# Altium schematic symbol library ON Semi Logic Multiplexer.SchLib: 195 symbols (part 1 of 4)
Pins are listed as number, name and electrical type; pins without a type are passive.

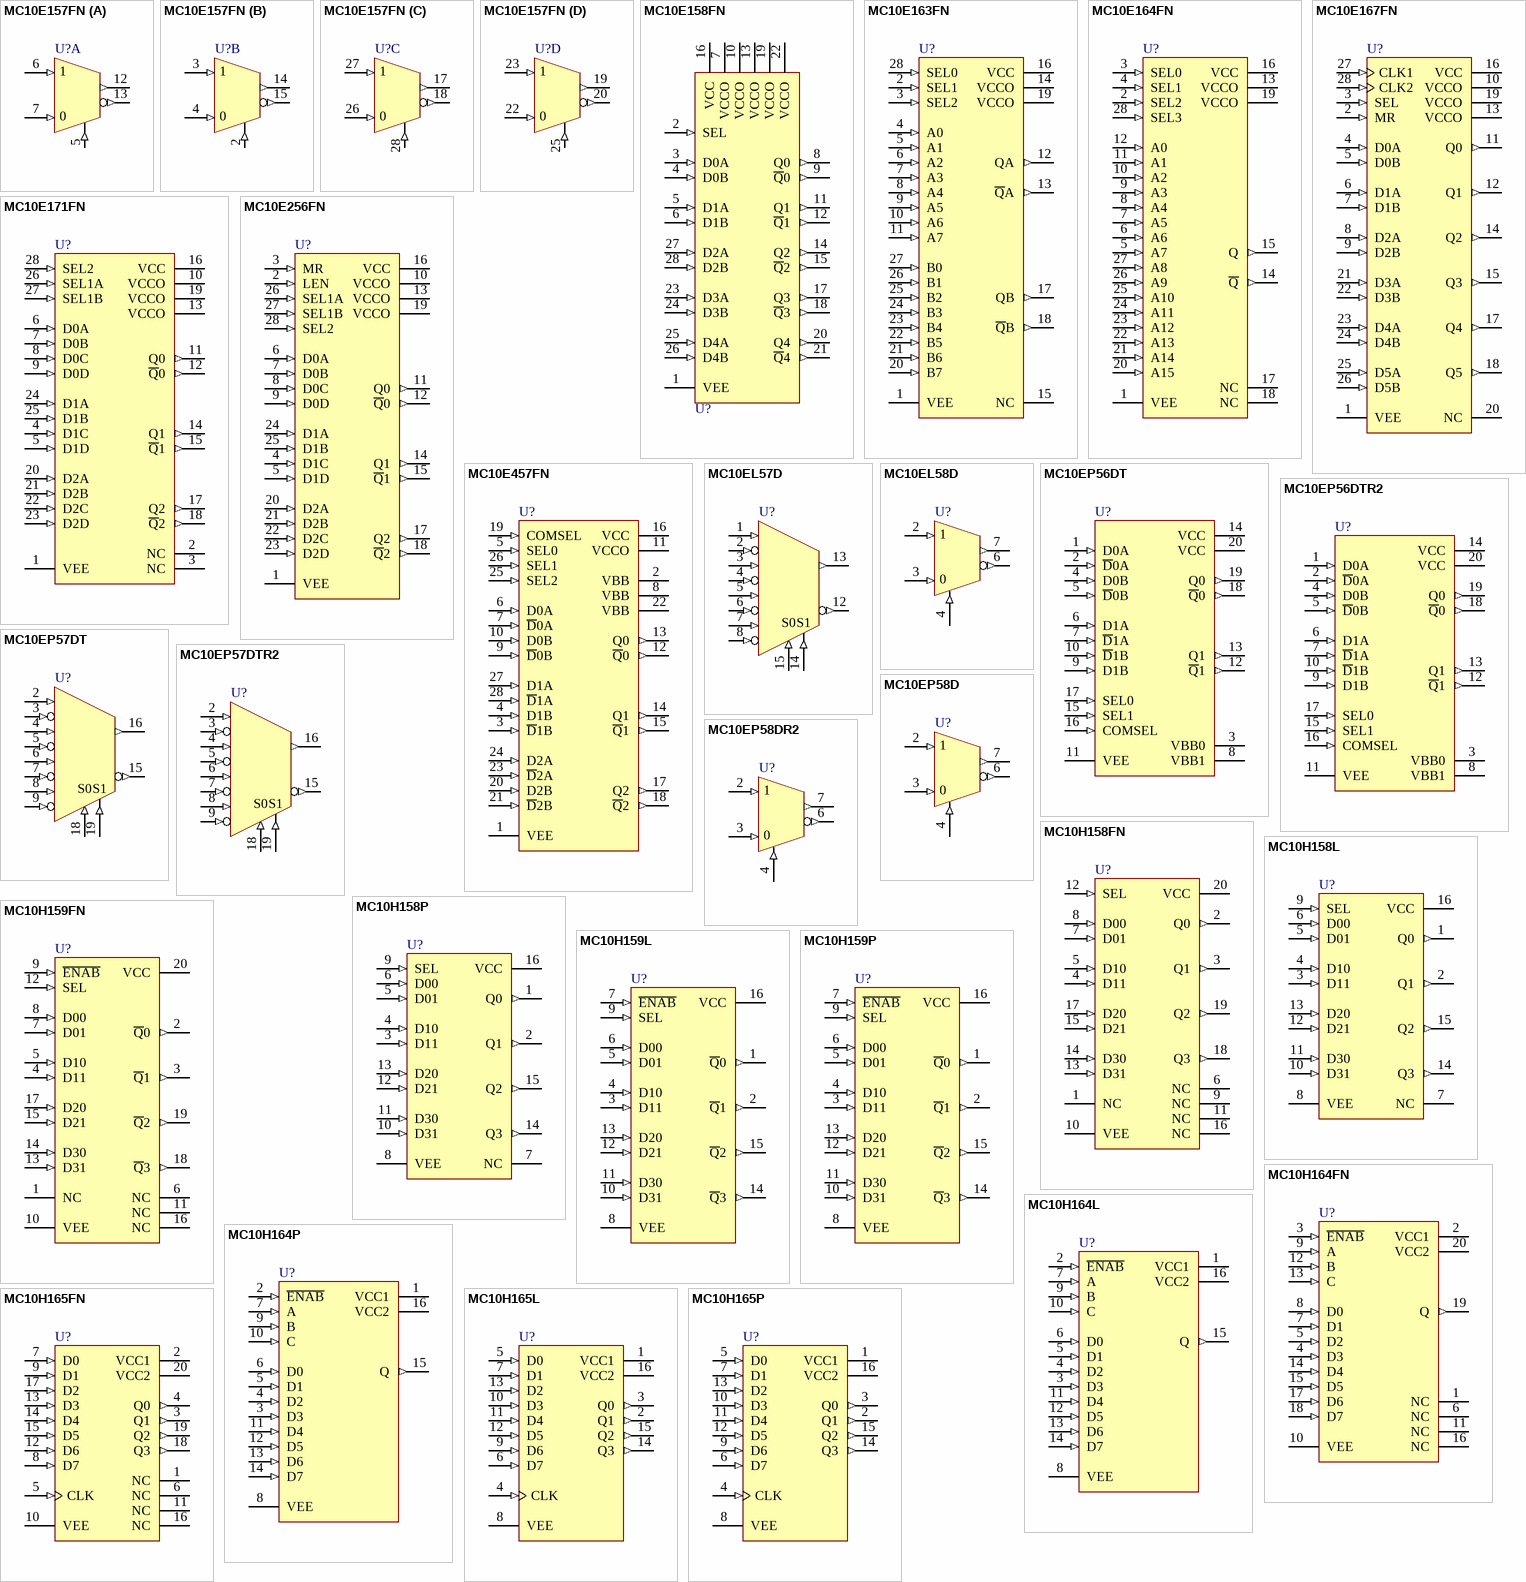
[diagram p0: symbols MC10E157FN to MC10H165P]

## MC10E157FN
designator U?
Quad 2:1 Multiplexer; Note: NC pins are 8,9,10, 24 and are not drawn.; Published: 15-Apr-2002; LatestRevisionDate: 13-Apr-2006; LatestRevisionNote: IPC-7351 Footprint Added.; DatasheetVersion: 1996; PackageVersion: Feb-2000; PackageReference: 776-02; Publisher: Altium Limited; PackageDescription: 28-Pin Leaded Chip Carrier 1.27 mm Pitch; ComponentLink1Description: Manufacturer Link; ComponentLink1URL: http://www.onsemi.com/; ComponentLink2Description: Datasheet; ComponentLink2URL: http://www.onsemi.com/pub/Collateral/MC10E157-D.PDF
footprint 776-02_N (Leaded Chip Carrier, 28-Leads, Body 11.5x11.5mm, Pitch 1.27mm, IPC Medium Density)
footprint 776-02_L (Leaded Chip Carrier, 28-Leads, Body 11.5x11.5mm, Pitch 1.27mm, IPC High Density)
footprint 776-02_M (Leaded Chip Carrier, 28-Leads, Body 11.5x11.5mm, Pitch 1.27mm, IPC Low Density)
pins on every part: 1 VEE (power) hidden to VEE, 11 VCCO (power) hidden to VCCO, 16 VCC (power) hidden to VCC, 21 VCCO (power) hidden to VCCO
part A pins: 5 SEL0 (in), 6 D0A (in), 7 D0B (in), 12 Q0 (out), 13 ~{Q}0 (out)
part B pins: 2 SEL1 (in), 3 D1A (in), 4 D1B (in), 14 Q1 (out), 15 ~{Q}1 (out)
part C pins: 17 Q2 (out), 18 ~{Q}2 (out), 26 D2B (in), 27 D2A (in), 28 SEL2 (in)
part D pins: 19 Q3 (out), 20 ~{Q}3 (out), 22 D3B (in), 23 D3A (in), 25 SEL3 (in)
part A text: 0
part B text: 0
part C text: 0
part D text: 0

## MC10E158FN
designator U?
5-Bit 2:1 Multiplexer; Published: 15-Apr-2002; LatestRevisionDate: 13-Apr-2006; LatestRevisionNote: IPC-7351 Footprint Added.; DatasheetVersion: 1996; PackageVersion: Feb-2000; PackageReference: 776-02; Publisher: Altium Limited; PackageDescription: 28-Pin Leaded Chip Carrier 1.27 mm Pitch; ComponentLink1Description: Manufacturer Link; ComponentLink1URL: http://www.onsemi.com/; ComponentLink2Description: Datasheet; ComponentLink2URL: http://www.onsemi.com/pub/Collateral/MC10E158-D.PDF
footprint 776-02_N (Leaded Chip Carrier, 28-Leads, Body 11.5x11.5mm, Pitch 1.27mm, IPC Medium Density)
footprint 776-02_L (Leaded Chip Carrier, 28-Leads, Body 11.5x11.5mm, Pitch 1.27mm, IPC High Density)
footprint 776-02_M (Leaded Chip Carrier, 28-Leads, Body 11.5x11.5mm, Pitch 1.27mm, IPC Low Density)
pins: 1 VEE (power), 2 SEL (in), 3 D0A (in), 4 D0B (in), 5 D1A (in), 6 D1B (in), 7 VCCO (power), 8 Q0 (out), 9 ~{Q}0 (out), 10 VCCO (power), 11 Q1 (out), 12 ~{Q}1 (out), 13 VCCO (power), 14 Q2 (out), 15 ~{Q}2 (out), 16 VCC (power), 17 Q3 (out), 18 ~{Q}3 (out), 19 VCCO (power), 20 Q4 (out), 21 ~{Q}4 (out), 22 VCCO (power), 23 D3A (in), 24 D3B (in), 25 D4A (in), 26 D4B (in), 27 D2A (in), 28 D2B (in)

## MC10E163FN
designator U?
2-Bit 8:1 Multiplexer; Published: 15-Apr-2002; LatestRevisionDate: 13-Apr-2006; LatestRevisionNote: IPC-7351 Footprint Added.; DatasheetVersion: 1996; PackageVersion: Feb-2000; PackageReference: 776-02; Publisher: Altium Limited; PackageDescription: 28-Pin Leaded Chip Carrier 1.27 mm Pitch; ComponentLink1Description: Manufacturer Link; ComponentLink1URL: http://www.onsemi.com/; ComponentLink2Description: Datasheet; ComponentLink2URL: http://www.onsemi.com/pub/Collateral/MC10E163-D.PDF
footprint 776-02_N (Leaded Chip Carrier, 28-Leads, Body 11.5x11.5mm, Pitch 1.27mm, IPC Medium Density)
footprint 776-02_L (Leaded Chip Carrier, 28-Leads, Body 11.5x11.5mm, Pitch 1.27mm, IPC High Density)
footprint 776-02_M (Leaded Chip Carrier, 28-Leads, Body 11.5x11.5mm, Pitch 1.27mm, IPC Low Density)
pins: 1 VEE (power), 2 SEL1 (in), 3 SEL2 (in), 4 A0 (in), 5 A1 (in), 6 A2 (in), 7 A3 (in), 8 A4 (in), 9 A5 (in), 10 A6 (in), 11 A7 (in), 12 QA (out), 13 ~{Q}A (out), 14 VCCO (power), 15 NC, 16 VCC (power), 17 QB (out), 18 ~{Q}B (out), 19 VCCO (power), 20 B7 (in), 21 B6 (in), 22 B5 (in), 23 B4 (in), 24 B3 (in), 25 B2 (in), 26 B1 (in), 27 B0 (in), 28 SEL0 (in)

## MC10E164FN
designator U?
16:1 Multiplexer; Published: 15-Apr-2002; LatestRevisionDate: 13-Apr-2006; LatestRevisionNote: IPC-7351 Footprint Added.; DatasheetVersion: 1996; PackageVersion: Feb-2000; PackageReference: 776-02; Publisher: Altium Limited; PackageDescription: 28-Pin Leaded Chip Carrier 1.27 mm Pitch; ComponentLink1Description: Manufacturer Link; ComponentLink1URL: http://www.onsemi.com/; ComponentLink2Description: Datasheet; ComponentLink2URL: http://www.onsemi.com/pub/Collateral/MC10E164-D.PDF
footprint 776-02_N (Leaded Chip Carrier, 28-Leads, Body 11.5x11.5mm, Pitch 1.27mm, IPC Medium Density)
footprint 776-02_L (Leaded Chip Carrier, 28-Leads, Body 11.5x11.5mm, Pitch 1.27mm, IPC High Density)
footprint 776-02_M (Leaded Chip Carrier, 28-Leads, Body 11.5x11.5mm, Pitch 1.27mm, IPC Low Density)
pins: 1 VEE (power), 2 SEL2 (in), 3 SEL0 (in), 4 SEL1 (in), 5 A7 (in), 6 A6 (in), 7 A5 (in), 8 A4 (in), 9 A3 (in), 10 A2 (in), 11 A1 (in), 12 A0 (in), 13 VCCO (power), 14 ~{Q} (out), 15 Q (out), 16 VCC (power), 17 NC, 18 NC, 19 VCCO (power), 20 A15 (in), 21 A14 (in), 22 A13 (in), 23 A12 (in), 24 A11 (in), 25 A10 (in), 26 A9 (in), 27 A8 (in), 28 SEL3 (in)

## MC10E167FN
designator U?
6-Bit 2:1 Multiplexer-Register; Published: 15-Apr-2002; LatestRevisionDate: 13-Apr-2006; LatestRevisionNote: IPC-7351 Footprint Added.; DatasheetVersion: 1996; PackageVersion: Feb-2000; PackageReference: 776-02; Publisher: Altium Limited; PackageDescription: 28-Pin Leaded Chip Carrier 1.27 mm Pitch; ComponentLink1Description: Manufacturer Link; ComponentLink1URL: http://www.onsemi.com/; ComponentLink2Description: Datasheet; ComponentLink2URL: http://www.onsemi.com/pub/Collateral/MC10E167-D.PDF
footprint 776-02_N (Leaded Chip Carrier, 28-Leads, Body 11.5x11.5mm, Pitch 1.27mm, IPC Medium Density)
footprint 776-02_L (Leaded Chip Carrier, 28-Leads, Body 11.5x11.5mm, Pitch 1.27mm, IPC High Density)
footprint 776-02_M (Leaded Chip Carrier, 28-Leads, Body 11.5x11.5mm, Pitch 1.27mm, IPC Low Density)
pins: 1 VEE (power), 2 MR (in), 3 SEL (in), 4 D0A (in), 5 D0B (in), 6 D1A (in), 7 D1B (in), 8 D2A (in), 9 D2B (in), 10 VCCO (power), 11 Q0 (out), 12 Q1 (out), 13 VCCO (power), 14 Q2 (out), 15 Q3 (out), 16 VCC (power), 17 Q4 (out), 18 Q5 (out), 19 VCCO (power), 20 NC, 21 D3A (in), 22 D3B (in), 23 D4A (in), 24 D4B (in), 25 D5A (in), 26 D5B (in), 27 CLK1 (in), 28 CLK2 (in)

## MC10E171FN
designator U?
3-Bit 4:1 Multiplexer; Published: 15-Apr-2002; LatestRevisionDate: 13-Apr-2006; LatestRevisionNote: IPC-7351 Footprint Added.; DatasheetVersion: 1996; PackageVersion: Feb-2000; PackageReference: 776-02; Publisher: Altium Limited; PackageDescription: 28-Pin Leaded Chip Carrier 1.27 mm Pitch; ComponentLink1Description: Manufacturer Link; ComponentLink1URL: http://www.onsemi.com/; ComponentLink2Description: Datasheet; ComponentLink2URL: http://www.onsemi.com/pub/Collateral/MC10E171-D.PDF
footprint 776-02_N (Leaded Chip Carrier, 28-Leads, Body 11.5x11.5mm, Pitch 1.27mm, IPC Medium Density)
footprint 776-02_L (Leaded Chip Carrier, 28-Leads, Body 11.5x11.5mm, Pitch 1.27mm, IPC High Density)
footprint 776-02_M (Leaded Chip Carrier, 28-Leads, Body 11.5x11.5mm, Pitch 1.27mm, IPC Low Density)
pins: 1 VEE (power), 2 NC, 3 NC, 4 D1C (in), 5 D1D (in), 6 D0A (in), 7 D0B (in), 8 D0C (in), 9 D0D (in), 10 VCCO (power), 11 Q0 (out), 12 ~{Q}0 (out), 13 VCCO (power), 14 Q1 (out), 15 ~{Q}1 (out), 16 VCC (power), 17 Q2 (out), 18 ~{Q}2 (out), 19 VCCO (power), 20 D2A (in), 21 D2B (in), 22 D2C (in), 23 D2D (in), 24 D1A (in), 25 D1B (in), 26 SEL1A (in), 27 SEL1B (in), 28 SEL2 (in)

## MC10E256FN
designator U?
3-Bit 4:1 Multiplexer-Latch; Published: 15-Apr-2002; LatestRevisionDate: 13-Apr-2006; LatestRevisionNote: IPC-7351 Footprint Added.; DatasheetVersion: 1996; PackageVersion: Feb-2000; PackageReference: 776-02; Publisher: Altium Limited; PackageDescription: 28-Pin Leaded Chip Carrier 1.27 mm Pitch; ComponentLink1Description: Manufacturer Link; ComponentLink1URL: http://www.onsemi.com/
footprint 776-02_N (Leaded Chip Carrier, 28-Leads, Body 11.5x11.5mm, Pitch 1.27mm, IPC Medium Density)
footprint 776-02_L (Leaded Chip Carrier, 28-Leads, Body 11.5x11.5mm, Pitch 1.27mm, IPC High Density)
footprint 776-02_M (Leaded Chip Carrier, 28-Leads, Body 11.5x11.5mm, Pitch 1.27mm, IPC Low Density)
pins: 1 VEE (power), 2 LEN (in), 3 MR (in), 4 D1C (in), 5 D1D (in), 6 D0A (in), 7 D0B (in), 8 D0C (in), 9 D0D (in), 10 VCCO (power), 11 Q0 (out), 12 ~{Q}0 (out), 13 VCCO (power), 14 Q1 (out), 15 ~{Q}1 (out), 16 VCC (power), 17 Q2 (out), 18 ~{Q}2 (out), 19 VCCO (power), 20 D2A (in), 21 D2B (in), 22 D2C (in), 23 D2D (in), 24 D1A (in), 25 D1B (in), 26 SEL1A (in), 27 SEL1B (in), 28 SEL2 (in)

## MC10E457FN
designator U?
Triple Differential 2:1 Multiplexer; Published: 15-Apr-2002; LatestRevisionDate: 13-Apr-2006; LatestRevisionNote: IPC-7351 Footprint Added.; DatasheetVersion: 1996; PackageVersion: Feb-2000; PackageReference: 776-02; Publisher: Altium Limited; PackageDescription: 28-Pin Leaded Chip Carrier 1.27 mm Pitch; ComponentLink1Description: Manufacturer Link; ComponentLink1URL: http://www.onsemi.com/; ComponentLink2Description: Datasheet; ComponentLink2URL: http://www.onsemi.com/pub/Collateral/MC10E457-D.PDF
footprint 776-02_N (Leaded Chip Carrier, 28-Leads, Body 11.5x11.5mm, Pitch 1.27mm, IPC Medium Density)
footprint 776-02_L (Leaded Chip Carrier, 28-Leads, Body 11.5x11.5mm, Pitch 1.27mm, IPC High Density)
footprint 776-02_M (Leaded Chip Carrier, 28-Leads, Body 11.5x11.5mm, Pitch 1.27mm, IPC Low Density)
pins: 1 VEE (power), 2 VBB (power), 3 ~{D}1B (in), 4 D1B (in), 5 SEL0 (in), 6 D0A (in), 7 ~{D}0A (in), 8 VBB (power), 9 ~{D}0B (in), 10 D0B (in), 11 VCCO (power), 12 ~{Q}0 (out), 13 Q0 (out), 14 Q1 (out), 15 ~{Q}1 (out), 16 VCC (power), 17 Q2 (out), 18 ~{Q}2 (out), 19 COMSEL (in), 20 D2B (in), 21 ~{D}2B (in), 22 VBB (power), 23 ~{D}2A (in), 24 D2A (in), 25 SEL2 (in), 26 SEL1 (in), 27 D1A (in), 28 ~{D}1A (in)

## MC10EL57D
designator U?
4:1 Differential Multiplexer; Published: 15-Apr-2002; LatestRevisionDate: 13-Apr-2006; LatestRevisionNote: IPC-7351 Footprint Added.; DatasheetVersion: 1996; PackageVersion: Oct-1999; PackageReference: 751B-05; Publisher: Altium Limited; PackageDescription: 16-Pin Small Outline Integrated Circuit 1.27 mm Pitch; Code_JEDEC: MS-012-AC; Code_IPC: SOIC127P600-16; ComponentLink1Description: Manufacturer Link; ComponentLink1URL: http://www.onsemi.com/; ComponentLink2Description: Datasheet; ComponentLink2URL: http://www.onsemi.com/pub/Collateral/MC10EL57-D.PDF
footprint 751B-05_N (SOIC, 16-Leads, Body 9.9x3.9mm, Pitch 1.27mm, IPC Medium Density)
footprint 751B-05_L (SOIC, 16-Leads, Body 9.9x3.9mm, Pitch 1.27mm, IPC High Density)
footprint 751B-05_M (SOIC, 16-Leads, Body 9.9x3.9mm, Pitch 1.27mm, IPC Low Density)
pins: 1 D0 (in), 2 ~{D}0 (in), 3 D1 (in), 4 ~{D}1 (in), 5 D2 (in), 6 ~{D}2 (in), 7 D3 (in), 8 ~{D}3 (in), 9 VEE (power) hidden to VEE, 10 VBB2 (power) hidden to VBB2, 11 VBB1 (power) hidden to VBB1, 12 ~{Q} (out), 13 Q (out), 14 SEL1 (in), 15 SEL0 (in), 16 VCC (power) hidden to VCC
text: S0; S1

## MC10EL58D
designator U?
2:1 Multiplexer; Note: NC pin is 1 and is not drawn; Published: 15-Apr-2002; LatestRevisionDate: 13-Apr-2006; LatestRevisionNote: IPC-7351 Footprint Added.; DatasheetVersion: 1996; PackageVersion: 1998; PackageReference: 751-05; Publisher: Altium Limited; PackageDescription: 8-Pin Small Outline Integrated Circuit 1.27 mm Pitch; Code_JEDEC: MS-012-AA; Code_IPC: SOIC127P600-8; ComponentLink1Description: Manufacturer Link; ComponentLink1URL: http://www.onsemi.com/; ComponentLink2Description: Datasheet; ComponentLink2URL: http://www.onsemi.com/pub/Collateral/MC10EL58-D.PDF
footprint 751-05_N (SOIC, 8-Leads, Body 4.9x3.9mm, Pitch 1.27mm, IPC Medium Density)
footprint 751-05_L (SOIC, 8-Leads, Body 4.9x3.9mm, Pitch 1.27mm, IPC High Density)
footprint 751-05_M (SOIC, 8-Leads, Body 4.9x3.9mm, Pitch 1.27mm, IPC Low Density)
pins: 2 DA (in), 3 DB (in), 4 SEL (in), 5 VEE (power) hidden to VEE, 6 ~{Q} (out), 7 Q (out), 8 VCC (power) hidden to VCC
text: 1; 0

## MC10EP56DT
designator U?
Dual Differential 2:1 Multiplexer; Published: 15-Apr-2002; LatestRevisionDate: 12-Dec-2006; LatestRevisionNote: IPC-7351 Footprint Added.; DatasheetVersion: Jan-2000; PackageVersion: Mar-2000; PackageReference: 948E-02; Publisher: Altium Limited; PackageDescription: 20-Pin Thin Small Outline Package 0.65 mm Pitch; ComponentLink1Description: Manufacturer Link; ComponentLink1URL: http://www.onsemi.com/; ComponentLink2Description: Datasheet; ComponentLink2URL: http://www.onsemi.com/pub/Collateral/MC10EP56-D.PDF
footprint 948E-02_N (TSOP, 20-Leads, Body 6.5x4.4mm, Pitch 0.65mm, IPC Medium Density)
footprint 948E-02_L (TSOP, 20-Leads, Body 6.5x4.4mm, Pitch 0.65mm, IPC High Density)
footprint 948E-02_M (TSOP, 20-Leads, Body 6.5x4.4mm, Pitch 0.65mm, IPC Low Density)
pins: 1 D0A (in), 2 ~{D}0A (in), 3 VBB0 (power), 4 D0B (in), 5 ~{D}0B (in), 6 D1A (in), 7 ~{D}1A (in), 8 VBB1 (power), 9 D1B (in), 10 ~{D}1B (in), 11 VEE (power), 12 ~{Q}1 (out), 13 Q1 (out), 14 VCC (power), 15 SEL1 (in), 16 COMSEL (in), 17 SEL0 (in), 18 ~{Q}0 (out), 19 Q0 (out), 20 VCC (power)

## MC10EP56DTR2
designator U?
Dual Differential 2:1 Multiplexer; Published: 15-Apr-2002; LatestRevisionDate: 12-Dec-2006; LatestRevisionNote: IPC-7351 Footprint Added.; DatasheetVersion: Jan-2000; PackageVersion: Mar-2000; PackageReference: 948E-02; Publisher: Altium Limited; PackageDescription: 20-Pin Thin Small Outline Package 0.65 mm Pitch; ComponentLink1Description: Manufacturer Link; ComponentLink1URL: http://www.onsemi.com/; ComponentLink2Description: Datasheet; ComponentLink2URL: http://www.onsemi.com/pub/Collateral/MC10EP56-D.PDF
footprint 948E-02_N (TSOP, 20-Leads, Body 6.5x4.4mm, Pitch 0.65mm, IPC Medium Density)
footprint 948E-02_L (TSOP, 20-Leads, Body 6.5x4.4mm, Pitch 0.65mm, IPC High Density)
footprint 948E-02_M (TSOP, 20-Leads, Body 6.5x4.4mm, Pitch 0.65mm, IPC Low Density)
pins: 1 D0A (in), 2 ~{D}0A (in), 3 VBB0 (power), 4 D0B (in), 5 ~{D}0B (in), 6 D1A (in), 7 ~{D}1A (in), 8 VBB1 (power), 9 D1B (in), 10 ~{D}1B (in), 11 VEE (power), 12 ~{Q}1 (out), 13 Q1 (out), 14 VCC (power), 15 SEL1 (in), 16 COMSEL (in), 17 SEL0 (in), 18 ~{Q}0 (out), 19 Q0 (out), 20 VCC (power)

## MC10EP57DT
designator U?
4:1 Differential Multiplexer; Published: 15-Apr-2002; LatestRevisionDate: 12-Dec-2006; LatestRevisionNote: IPC-7351 Footprint Added.; DatasheetVersion: Mar-2000; PackageVersion: Mar-2000; PackageReference: 948E-02; Publisher: Altium Limited; PackageDescription: 20-Pin Thin Small Outline Package 0.65 mm Pitch; ComponentLink1Description: Manufacturer Link; ComponentLink1URL: http://www.onsemi.com/; ComponentLink2Description: Datasheet; ComponentLink2URL: http://www.onsemi.com/pub/Collateral/MC10EP57-D.PDF
footprint 948E-02_N (TSOP, 20-Leads, Body 6.5x4.4mm, Pitch 0.65mm, IPC Medium Density)
footprint 948E-02_L (TSOP, 20-Leads, Body 6.5x4.4mm, Pitch 0.65mm, IPC High Density)
footprint 948E-02_M (TSOP, 20-Leads, Body 6.5x4.4mm, Pitch 0.65mm, IPC Low Density)
pins: 1 VCC (power) hidden to VCC, 2 D0 (in), 3 ~{D}0 (in), 4 D1 (in), 5 ~{D}1 (in), 6 D2 (in), 7 ~{D}2 (in), 8 D3 (in), 9 ~{D}3 (in), 10 VEE (power) hidden to VEE, 11 VEE (power) hidden to VEE, 12 VBB2 (power) hidden to VBB2, 13 VBB1 (power) hidden to VBB1, 14 VCC (power) hidden to VCC, 15 ~{Q} (out), 16 Q (out), 17 VCC (power) hidden to VCC, 18 SEL0 (in), 19 SEL1 (in), 20 VCC (power) hidden to VCC
text: S0; S1

## MC10EP57DTR2
designator U?
4:1 Differential Multiplexer; Published: 15-Apr-2002; LatestRevisionDate: 12-Dec-2006; LatestRevisionNote: IPC-7351 Footprint Added.; DatasheetVersion: Mar-2000; PackageVersion: Mar-2000; PackageReference: 948E-02; Publisher: Altium Limited; PackageDescription: 20-Pin Thin Small Outline Package 0.65 mm Pitch; ComponentLink1Description: Manufacturer Link; ComponentLink1URL: http://www.onsemi.com/; ComponentLink2Description: Datasheet; ComponentLink2URL: http://www.onsemi.com/pub/Collateral/MC10EP57-D.PDF
footprint 948E-02_N (TSOP, 20-Leads, Body 6.5x4.4mm, Pitch 0.65mm, IPC Medium Density)
footprint 948E-02_L (TSOP, 20-Leads, Body 6.5x4.4mm, Pitch 0.65mm, IPC High Density)
footprint 948E-02_M (TSOP, 20-Leads, Body 6.5x4.4mm, Pitch 0.65mm, IPC Low Density)
pins: 1 VCC (power) hidden to VCC, 2 D0 (in), 3 ~{D}0 (in), 4 D1 (in), 5 ~{D}1 (in), 6 D2 (in), 7 ~{D}2 (in), 8 D3 (in), 9 ~{D}3 (in), 10 VEE (power) hidden to VEE, 11 VEE (power) hidden to VEE, 12 VBB2 (power) hidden to VBB2, 13 VBB1 (power) hidden to VBB1, 14 VCC (power) hidden to VCC, 15 ~{Q} (out), 16 Q (out), 17 VCC (power) hidden to VCC, 18 SEL0 (in), 19 SEL1 (in), 20 VCC (power) hidden to VCC
text: S0; S1

## MC10EP58D
designator U?
2:1 Multiplexer; Note: NC pin is 1 and is not drawn.; Published: 15-Apr-2002; LatestRevisionDate: 13-Apr-2006; LatestRevisionNote: IPC-7351 Footprint Added.; DatasheetVersion: Sep-1999; PackageVersion: Sep-1999; PackageReference: 751-06; Publisher: Altium Limited; PackageDescription: 8-Pin Small Outline Integrated Circuit 1.27 mm Pitch; Code_JEDEC: MS-012-AA; Code_IPC: SOIC127P600-8; ComponentLink1Description: Manufacturer Link; ComponentLink1URL: http://www.onsemi.com/; ComponentLink2Description: Datasheet; ComponentLink2URL: http://www.onsemi.com/pub/Collateral/MC10EP58-D.PDF
footprint 751-06_N (SOIC, 8-Leads, Body 4.9x3.9mm, Pitch 1.27mm, IPC Medium Density)
footprint 751-06_L (SOIC, 8-Leads, Body 4.9x3.9mm, Pitch 1.27mm, IPC High Density)
footprint 751-06_M (SOIC, 8-Leads, Body 4.9x3.9mm, Pitch 1.27mm, IPC Low Density)
pins: 2 DA (in), 3 DB (in), 4 SEL (in), 5 VEE (power) hidden to VEE, 6 ~{Q} (out), 7 Q (out), 8 VCC (power) hidden to VCC
text: 1; 0

## MC10EP58DR2
designator U?
2:1 Multiplexer; Note: NC pin is 1 and is not drawn.; Published: 15-Apr-2002; LatestRevisionDate: 13-Apr-2006; LatestRevisionNote: IPC-7351 Footprint Added.; DatasheetVersion: Sep-1999; PackageVersion: Sep-1999; PackageReference: 751-06; Publisher: Altium Limited; PackageDescription: 8-Pin Small Outline Integrated Circuit 1.27 mm Pitch; Code_JEDEC: MS-012-AA; Code_IPC: SOIC127P600-8; ComponentLink1Description: Manufacturer Link; ComponentLink1URL: http://www.onsemi.com/; ComponentLink2Description: Datasheet; ComponentLink2URL: http://www.onsemi.com/pub/Collateral/MC10EP58-D.PDF
footprint 751-06_N (SOIC, 8-Leads, Body 4.9x3.9mm, Pitch 1.27mm, IPC Medium Density)
footprint 751-06_L (SOIC, 8-Leads, Body 4.9x3.9mm, Pitch 1.27mm, IPC High Density)
footprint 751-06_M (SOIC, 8-Leads, Body 4.9x3.9mm, Pitch 1.27mm, IPC Low Density)
pins: 2 DA (in), 3 DB (in), 4 SEL (in), 5 VEE (power) hidden to VEE, 6 ~{Q} (out), 7 Q (out), 8 VCC (power) hidden to VCC
text: 1; 0

## MC10H158FN
designator U?
Quad 2-Input Multiplexer (Non-Inverting); Published: 15-Apr-2002; LatestRevisionDate: 13-Apr-2006; LatestRevisionNote: IPC-7351 Footprint Added.; DatasheetVersion: 1996; PackageVersion: 1996; PackageReference: 775-02; Publisher: Altium Limited; PackageDescription: 20-Pin Leaded Chip Carrier 1.27 mm Pitch; ComponentLink1Description: Manufacturer Link; ComponentLink1URL: http://www.onsemi.com/; ComponentLink2Description: Datasheet; ComponentLink2URL: http://www.onsemi.com/pub/Collateral/MC10H158-D.PDF
footprint 775-02_N (Leaded Chip Carrier, 20-Leads, Body 9x9mm, Pitch 1.27mm, IPC Medium Density)
footprint 775-02_L (Leaded Chip Carrier, 20-Leads, Body 9x9mm, Pitch 1.27mm, IPC High Density)
footprint 775-02_M (Leaded Chip Carrier, 20-Leads, Body 9x9mm, Pitch 1.27mm, IPC Low Density)
pins: 1 NC, 2 Q0 (out), 3 Q1 (out), 4 D11 (in), 5 D10 (in), 6 NC, 7 D01 (in), 8 D00 (in), 9 NC, 10 VEE (power), 11 NC, 12 SEL (in), 13 D31 (in), 14 D30 (in), 15 D21 (in), 16 NC, 17 D20 (in), 18 Q3 (out), 19 Q2 (out), 20 VCC (power)

## MC10H158L
designator U?
Quad 2-Input Multiplexer (Non-Inverting); ComponentAvailability: Not for New Design; Published: 15-Apr-2002; DatasheetVersion: 1996; PackageVersion: 1996; PackageReference: 620-10; Publisher: Altium Limited; PackageDescription: DIP; 16 Leads; Row Spacing 7.62 mm; Pitch 2.54 mm; ComponentLink1Description: Manufacturer Link; ComponentLink1URL: http://www.onsemi.com/; ComponentLink2Description: Datasheet; ComponentLink2URL: http://www.onsemi.com/pub/Collateral/MC10H158-D.PDF
footprint 620-10 (DIP; 16 Leads; Row Spacing 7.62 mm; Pitch 2.54 mm)
pins: 1 Q0 (out), 2 Q1 (out), 3 D11 (in), 4 D10 (in), 5 D01 (in), 6 D00 (in), 7 NC, 8 VEE (power), 9 SEL (in), 10 D31 (in), 11 D30 (in), 12 D21 (in), 13 D20 (in), 14 Q3 (out), 15 Q2 (out), 16 VCC (power)

## MC10H158P
designator U?
Quad 2-Input Multiplexer (Non-Inverting); Published: 15-Apr-2002; DatasheetVersion: 1996; PackageVersion: Apr-2000; PackageReference: 648-08; Publisher: Altium Limited; PackageDescription: DIP; 16 Leads; Row Spacing 7.62 mm; Pitch 2.54 mm; Code_JEDEC: MS-001-BB; ComponentLink1Description: Manufacturer Link; ComponentLink1URL: http://www.onsemi.com/; ComponentLink2Description: Datasheet; ComponentLink2URL: http://www.onsemi.com/pub/Collateral/MC10H158-D.PDF
footprint 648-08 (DIP; 16 Leads; Row Spacing 7.62 mm; Pitch 2.54 mm)
pins: 1 Q0 (out), 2 Q1 (out), 3 D11 (in), 4 D10 (in), 5 D01 (in), 6 D00 (in), 7 NC, 8 VEE (power), 9 SEL (in), 10 D31 (in), 11 D30 (in), 12 D21 (in), 13 D20 (in), 14 Q3 (out), 15 Q2 (out), 16 VCC (power)

## MC10H159FN
designator U?
Quad 2-Input Multiplexer (Inverting); Published: 15-Apr-2002; LatestRevisionDate: 13-Apr-2006; LatestRevisionNote: IPC-7351 Footprint Added.; DatasheetVersion: 1996; PackageVersion: 1996; PackageReference: 775-02; Publisher: Altium Limited; PackageDescription: 20-Pin Leaded Chip Carrier 1.27 mm Pitch; ComponentLink1Description: Manufacturer Link; ComponentLink1URL: http://www.onsemi.com/; ComponentLink2Description: Datasheet; ComponentLink2URL: http://www.onsemi.com/pub/Collateral/MC10H159-D.PDF
footprint 775-02_N (Leaded Chip Carrier, 20-Leads, Body 9x9mm, Pitch 1.27mm, IPC Medium Density)
footprint 775-02_L (Leaded Chip Carrier, 20-Leads, Body 9x9mm, Pitch 1.27mm, IPC High Density)
footprint 775-02_M (Leaded Chip Carrier, 20-Leads, Body 9x9mm, Pitch 1.27mm, IPC Low Density)
pins: 1 NC, 2 ~{Q}0 (out), 3 ~{Q}1 (out), 4 D11 (in), 5 D10 (in), 6 NC, 7 D01 (in), 8 D00 (in), 9 ~{ENAB} (in), 10 VEE (power), 11 NC, 12 SEL (in), 13 D31 (in), 14 D30 (in), 15 D21 (in), 16 NC, 17 D20 (in), 18 ~{Q}3 (out), 19 ~{Q}2 (out), 20 VCC (power)

## MC10H159L
designator U?
Quad 2-Input Multiplexer (Inverting); ComponentAvailability: Not for New Design; Published: 15-Apr-2002; DatasheetVersion: 1996; PackageVersion: 1996; PackageReference: 620-10; Publisher: Altium Limited; PackageDescription: DIP; 16 Leads; Row Spacing 7.62 mm; Pitch 2.54 mm; ComponentLink1Description: Manufacturer Link; ComponentLink1URL: http://www.onsemi.com/; ComponentLink2Description: Datasheet; ComponentLink2URL: http://www.onsemi.com/pub/Collateral/MC10H159-D.PDF
footprint 620-10 (DIP; 16 Leads; Row Spacing 7.62 mm; Pitch 2.54 mm)
pins: 1 ~{Q}0 (out), 2 ~{Q}1 (out), 3 D11 (in), 4 D10 (in), 5 D01 (in), 6 D00 (in), 7 ~{ENAB} (in), 8 VEE (power), 9 SEL (in), 10 D31 (in), 11 D30 (in), 12 D21 (in), 13 D20 (in), 14 ~{Q}3 (out), 15 ~{Q}2 (out), 16 VCC (power)

## MC10H159P
designator U?
Quad 2-Input Multiplexer (Inverting); Published: 15-Apr-2002; DatasheetVersion: 1996; PackageVersion: Apr-2000; PackageReference: 648-08; Publisher: Altium Limited; PackageDescription: DIP; 16 Leads; Row Spacing 7.62 mm; Pitch 2.54 mm; Code_JEDEC: MS-001-BB; ComponentLink1Description: Manufacturer Link; ComponentLink1URL: http://www.onsemi.com/; ComponentLink2Description: Datasheet; ComponentLink2URL: http://www.onsemi.com/pub/Collateral/MC10H159-D.PDF
footprint 648-08 (DIP; 16 Leads; Row Spacing 7.62 mm; Pitch 2.54 mm)
pins: 1 ~{Q}0 (out), 2 ~{Q}1 (out), 3 D11 (in), 4 D10 (in), 5 D01 (in), 6 D00 (in), 7 ~{ENAB} (in), 8 VEE (power), 9 SEL (in), 10 D31 (in), 11 D30 (in), 12 D21 (in), 13 D20 (in), 14 ~{Q}3 (out), 15 ~{Q}2 (out), 16 VCC (power)

## MC10H164FN
designator U?
8-Line Multiplexer; Published: 15-Apr-2002; LatestRevisionDate: 13-Apr-2006; LatestRevisionNote: IPC-7351 Footprint Added.; DatasheetVersion: 1996; PackageVersion: 1996; PackageReference: 775-02; Publisher: Altium Limited; PackageDescription: 20-Pin Leaded Chip Carrier 1.27 mm Pitch; ComponentLink1Description: Manufacturer Link; ComponentLink1URL: http://www.onsemi.com/; ComponentLink2Description: Datasheet; ComponentLink2URL: http://www.onsemi.com/pub/Collateral/MC10H164-D.PDF
footprint 775-02_N (Leaded Chip Carrier, 20-Leads, Body 9x9mm, Pitch 1.27mm, IPC Medium Density)
footprint 775-02_L (Leaded Chip Carrier, 20-Leads, Body 9x9mm, Pitch 1.27mm, IPC High Density)
footprint 775-02_M (Leaded Chip Carrier, 20-Leads, Body 9x9mm, Pitch 1.27mm, IPC Low Density)
pins: 1 NC, 2 VCC1 (power), 3 ~{ENAB} (in), 4 D3 (in), 5 D2 (in), 6 NC, 7 D1 (in), 8 D0 (in), 9 A (in), 10 VEE (power), 11 NC, 12 B (in), 13 C (in), 14 D4 (in), 15 D5 (in), 16 NC, 17 D6 (in), 18 D7 (in), 19 Q (out), 20 VCC2 (power)

## MC10H164L
designator U?
8-Line Multiplexer; Published: 15-Apr-2002; DatasheetVersion: 1996; PackageVersion: 1996; PackageReference: 620-10; Publisher: Altium Limited; PackageDescription: DIP; 16 Leads; Row Spacing 7.62 mm; Pitch 2.54 mm; ComponentLink1Description: Manufacturer Link; ComponentLink1URL: http://www.onsemi.com/; ComponentLink2Description: Datasheet; ComponentLink2URL: http://www.onsemi.com/pub/Collateral/MC10H164-D.PDF
footprint 620-10 (DIP; 16 Leads; Row Spacing 7.62 mm; Pitch 2.54 mm)
pins: 1 VCC1 (power), 2 ~{ENAB} (in), 3 D3 (in), 4 D2 (in), 5 D1 (in), 6 D0 (in), 7 A (in), 8 VEE (power), 9 B (in), 10 C (in), 11 D4 (in), 12 D5 (in), 13 D6 (in), 14 D7 (in), 15 Q (out), 16 VCC2 (power)

## MC10H164P
designator U?
8-Line Multiplexer; Published: 15-Apr-2002; DatasheetVersion: 1996; PackageVersion: Apr-2000; PackageReference: 648-08; Publisher: Altium Limited; PackageDescription: DIP; 16 Leads; Row Spacing 7.62 mm; Pitch 2.54 mm; Code_JEDEC: MS-001-BB; ComponentLink1Description: Manufacturer Link; ComponentLink1URL: http://www.onsemi.com/; ComponentLink2Description: Datasheet; ComponentLink2URL: http://www.onsemi.com/pub/Collateral/MC10H164-D.PDF
footprint 648-08 (DIP; 16 Leads; Row Spacing 7.62 mm; Pitch 2.54 mm)
pins: 1 VCC1 (power), 2 ~{ENAB} (in), 3 D3 (in), 4 D2 (in), 5 D1 (in), 6 D0 (in), 7 A (in), 8 VEE (power), 9 B (in), 10 C (in), 11 D4 (in), 12 D5 (in), 13 D6 (in), 14 D7 (in), 15 Q (out), 16 VCC2 (power)

## MC10H165FN
designator U?
8 Input Priority Encoder; Published: 15-Apr-2002; LatestRevisionDate: 13-Apr-2006; LatestRevisionNote: IPC-7351 Footprint Added.; DatasheetVersion: 1996; PackageVersion: 1996; PackageReference: 775-02; Publisher: Altium Limited; PackageDescription: 20-Pin Leaded Chip Carrier 1.27 mm Pitch; ComponentLink1Description: Manufacturer Link; ComponentLink1URL: http://www.onsemi.com/; ComponentLink2Description: Datasheet; ComponentLink2URL: http://www.onsemi.com/pub/Collateral/MC10H165-D.PDF
footprint 775-02_N (Leaded Chip Carrier, 20-Leads, Body 9x9mm, Pitch 1.27mm, IPC Medium Density)
footprint 775-02_L (Leaded Chip Carrier, 20-Leads, Body 9x9mm, Pitch 1.27mm, IPC High Density)
footprint 775-02_M (Leaded Chip Carrier, 20-Leads, Body 9x9mm, Pitch 1.27mm, IPC Low Density)
pins: 1 NC, 2 VCC1 (power), 3 Q1 (out), 4 Q0 (out), 5 CLK (in), 6 NC, 7 D0 (in), 8 D7 (in), 9 D1 (in), 10 VEE (power), 11 NC, 12 D6 (in), 13 D3 (in), 14 D4 (in), 15 D5 (in), 16 NC, 17 D2 (in), 18 Q3 (out), 19 Q2 (out), 20 VCC2 (power)

## MC10H165L
designator U?
8 Input Priority Encoder; Published: 15-Apr-2002; DatasheetVersion: 1996; PackageVersion: 1996; PackageReference: 620-10; Publisher: Altium Limited; PackageDescription: DIP; 16 Leads; Row Spacing 7.62 mm; Pitch 2.54 mm; ComponentLink1Description: Manufacturer Link; ComponentLink1URL: http://www.onsemi.com/; ComponentLink2Description: Datasheet; ComponentLink2URL: http://www.onsemi.com/pub/Collateral/MC10H165-D.PDF
footprint 620-10 (DIP; 16 Leads; Row Spacing 7.62 mm; Pitch 2.54 mm)
pins: 1 VCC1 (power), 2 Q1 (out), 3 Q0 (out), 4 CLK (in), 5 D0 (in), 6 D7 (in), 7 D1 (in), 8 VEE (power), 9 D6 (in), 10 D3 (in), 11 D4 (in), 12 D5 (in), 13 D2 (in), 14 Q3 (out), 15 Q2 (out), 16 VCC2 (power)

## MC10H165P
designator U?
8 Input Priority Encoder; Published: 15-Apr-2002; DatasheetVersion: 1996; PackageVersion: Apr-2000; PackageReference: 648-08; Publisher: Altium Limited; PackageDescription: DIP; 16 Leads; Row Spacing 7.62 mm; Pitch 2.54 mm; Code_JEDEC: MS-001-BB; ComponentLink1Description: Manufacturer Link; ComponentLink1URL: http://www.onsemi.com/; ComponentLink2Description: Datasheet; ComponentLink2URL: http://www.onsemi.com/pub/Collateral/MC10H165-D.PDF
footprint 648-08 (DIP; 16 Leads; Row Spacing 7.62 mm; Pitch 2.54 mm)
pins: 1 VCC1 (power), 2 Q1 (out), 3 Q0 (out), 4 CLK (in), 5 D0 (in), 6 D7 (in), 7 D1 (in), 8 VEE (power), 9 D6 (in), 10 D3 (in), 11 D4 (in), 12 D5 (in), 13 D2 (in), 14 Q3 (out), 15 Q2 (out), 16 VCC2 (power)

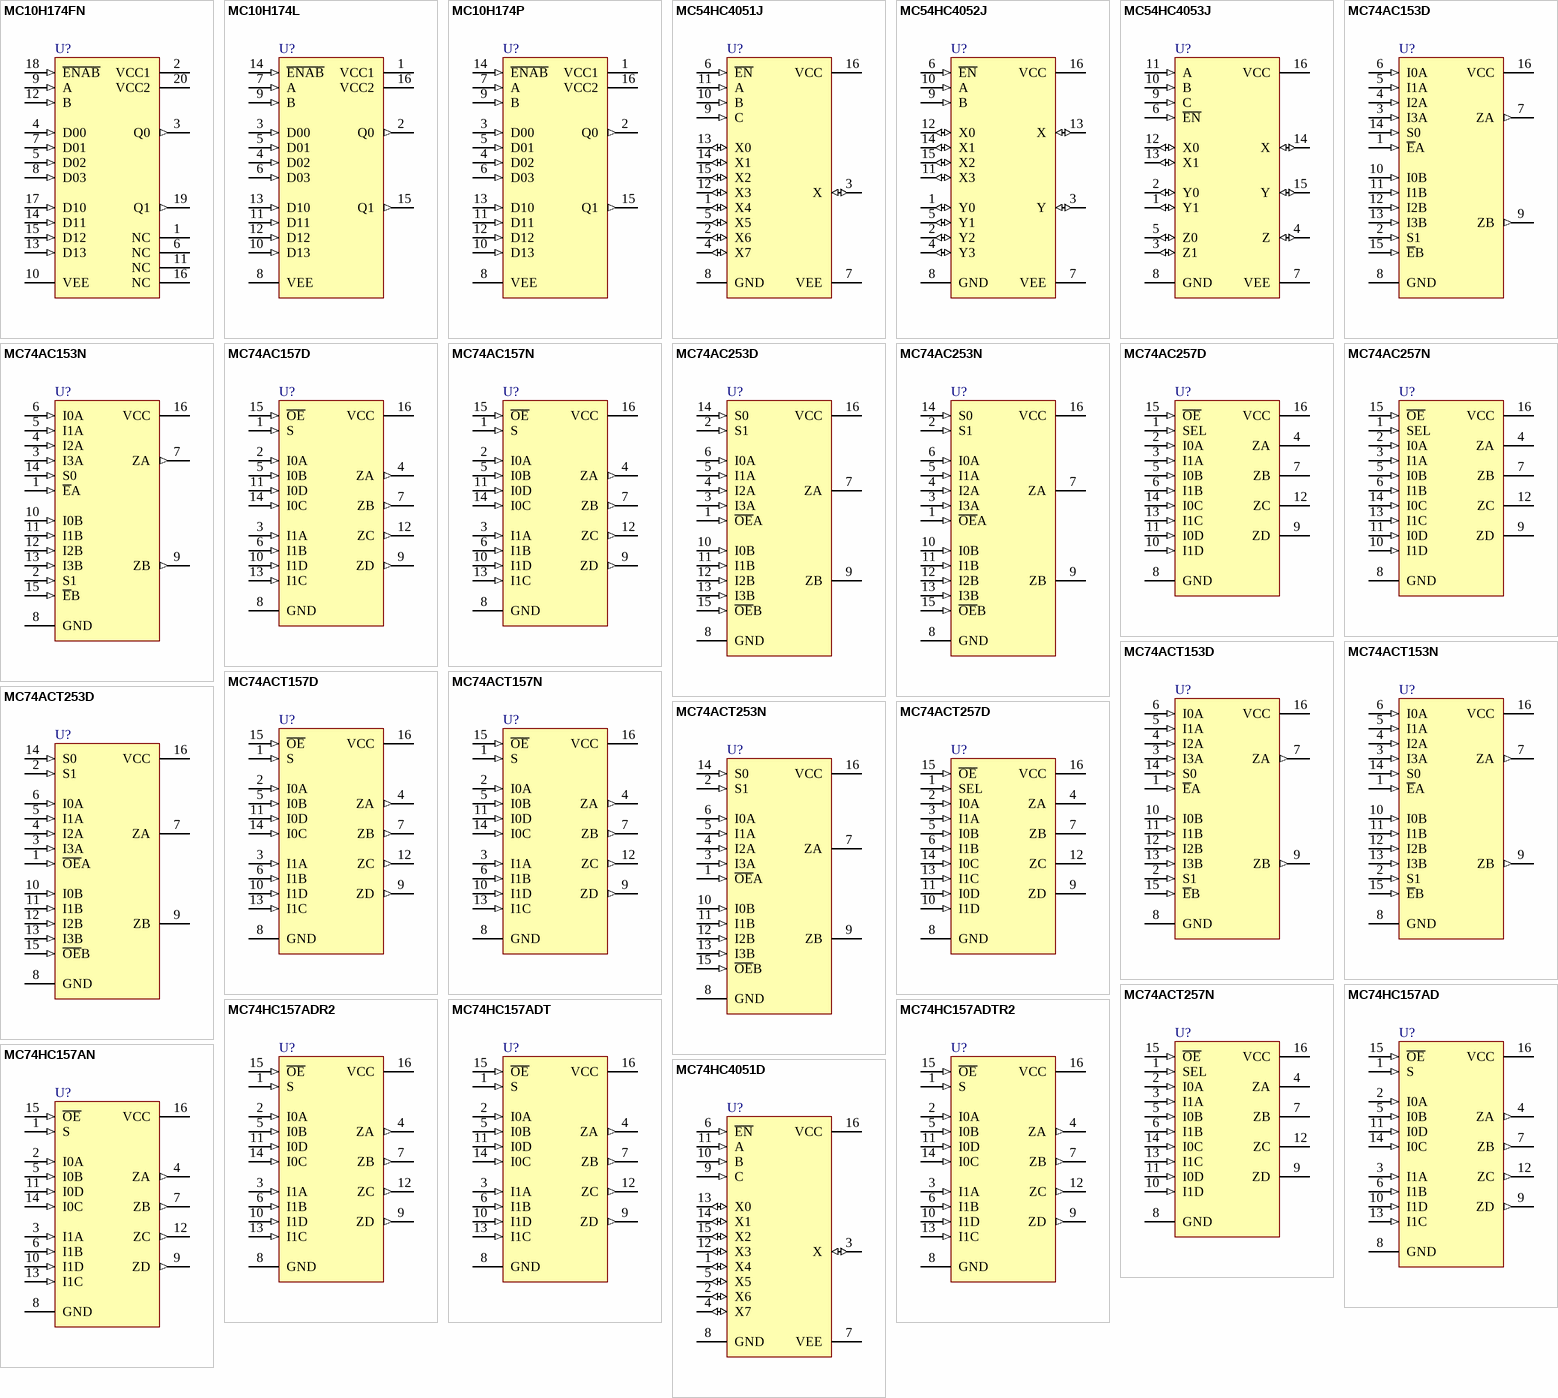
[diagram p1: symbols MC10H174FN to MC74HC4051D]

## MC10H174FN
designator U?
Dual 4:1 Multiplexer; Published: 15-Apr-2002; LatestRevisionDate: 13-Apr-2006; LatestRevisionNote: IPC-7351 Footprint Added.; DatasheetVersion: 1996; PackageVersion: 1996; PackageReference: 775-02; Publisher: Altium Limited; PackageDescription: 20-Pin Leaded Chip Carrier 1.27 mm Pitch; ComponentLink1Description: Manufacturer Link; ComponentLink1URL: http://www.onsemi.com/; ComponentLink2Description: Datasheet; ComponentLink2URL: http://www.onsemi.com/pub/Collateral/MC10H174-D.PDF
footprint 775-02_N (Leaded Chip Carrier, 20-Leads, Body 9x9mm, Pitch 1.27mm, IPC Medium Density)
footprint 775-02_L (Leaded Chip Carrier, 20-Leads, Body 9x9mm, Pitch 1.27mm, IPC High Density)
footprint 775-02_M (Leaded Chip Carrier, 20-Leads, Body 9x9mm, Pitch 1.27mm, IPC Low Density)
pins: 1 NC, 2 VCC1 (power), 3 Q0 (out), 4 D00 (in), 5 D02 (in), 6 NC, 7 D01 (in), 8 D03 (in), 9 A (in), 10 VEE (power), 11 NC, 12 B (in), 13 D13 (in), 14 D11 (in), 15 D12 (in), 16 NC, 17 D10 (in), 18 ~{ENAB} (in), 19 Q1 (out), 20 VCC2 (power)

## MC10H174L
designator U?
Dual 4:1 Multiplexer; Published: 15-Apr-2002; DatasheetVersion: 1996; PackageVersion: 1996; PackageReference: 620-10; Publisher: Altium Limited; PackageDescription: DIP; 16 Leads; Row Spacing 7.62 mm; Pitch 2.54 mm; ComponentLink1Description: Manufacturer Link; ComponentLink1URL: http://www.onsemi.com/; ComponentLink2Description: Datasheet; ComponentLink2URL: http://www.onsemi.com/pub/Collateral/MC10H174-D.PDF
footprint 620-10 (DIP; 16 Leads; Row Spacing 7.62 mm; Pitch 2.54 mm)
pins: 1 VCC1 (power), 2 Q0 (out), 3 D00 (in), 4 D02 (in), 5 D01 (in), 6 D03 (in), 7 A (in), 8 VEE (power), 9 B (in), 10 D13 (in), 11 D11 (in), 12 D12 (in), 13 D10 (in), 14 ~{ENAB} (in), 15 Q1 (out), 16 VCC2 (power)

## MC10H174P
designator U?
Dual 4:1 Multiplexer; Published: 15-Apr-2002; DatasheetVersion: 1996; PackageVersion: Apr-2000; PackageReference: 648-08; Publisher: Altium Limited; PackageDescription: DIP; 16 Leads; Row Spacing 7.62 mm; Pitch 2.54 mm; Code_JEDEC: MS-001-BB; ComponentLink1Description: Manufacturer Link; ComponentLink1URL: http://www.onsemi.com/; ComponentLink2Description: Datasheet; ComponentLink2URL: http://www.onsemi.com/pub/Collateral/MC10H174-D.PDF
footprint 648-08 (DIP; 16 Leads; Row Spacing 7.62 mm; Pitch 2.54 mm)
pins: 1 VCC1 (power), 2 Q0 (out), 3 D00 (in), 4 D02 (in), 5 D01 (in), 6 D03 (in), 7 A (in), 8 VEE (power), 9 B (in), 10 D13 (in), 11 D11 (in), 12 D12 (in), 13 D10 (in), 14 ~{ENAB} (in), 15 Q1 (out), 16 VCC2 (power)

## MC54HC4051J
designator U?
8-Channel Analog Multiplexer/Demultiplexer; Published: 15-Apr-2002; DatasheetVersion: 1995; PackageVersion: 1996; PackageReference: 620-10; Publisher: Altium Limited; PackageDescription: DIP; 16 Leads; Row Spacing 7.62 mm; Pitch 2.54 mm; ComponentLink1Description: Manufacturer Link; ComponentLink1URL: http://www.onsemi.com/; ComponentLink2Description: Datasheet; ComponentLink2URL: http://www.onsemi.com/pub/Collateral/MC74HC4051-D.PDF
footprint 620-10 (DIP; 16 Leads; Row Spacing 7.62 mm; Pitch 2.54 mm)
signal-integrity model MC54HC4051J
pins: 1 X4 (io), 2 X6 (io), 3 X (io), 4 X7 (io), 5 X5 (io), 6 ~{EN} (in), 7 VEE (power), 8 GND (power), 9 C (in), 10 B (in), 11 A (in), 12 X3 (io), 13 X0 (io), 14 X1 (io), 15 X2 (io), 16 VCC (power)

## MC54HC4052J
designator U?
Dual 4-Channel Analog Multiplexer/Demultiplexer; Published: 15-Apr-2002; DatasheetVersion: 1995; PackageVersion: 1996; PackageReference: 620-10; Publisher: Altium Limited; PackageDescription: DIP; 16 Leads; Row Spacing 7.62 mm; Pitch 2.54 mm; ComponentLink1Description: Manufacturer Link; ComponentLink1URL: http://www.onsemi.com/; ComponentLink2Description: Datasheet; ComponentLink2URL: http://www.onsemi.com/pub/Collateral/MC74HC4051-D.PDF
footprint 620-10 (DIP; 16 Leads; Row Spacing 7.62 mm; Pitch 2.54 mm)
signal-integrity model MC54HC4052J
pins: 1 Y0 (io), 2 Y2 (io), 3 Y (io), 4 Y3 (io), 5 Y1 (io), 6 ~{EN} (in), 7 VEE (power), 8 GND (power), 9 B (in), 10 A (in), 11 X3 (io), 12 X0 (io), 13 X (io), 14 X1 (io), 15 X2 (io), 16 VCC (power)

## MC54HC4053J
designator U?
Analog Multiplexer/Demultiplexer; Published: 15-Apr-2002; DatasheetVersion: 1995; PackageVersion: 1996; PackageReference: 620-10; Publisher: Altium Limited; PackageDescription: DIP; 16 Leads; Row Spacing 7.62 mm; Pitch 2.54 mm; ComponentLink1Description: Manufacturer Link; ComponentLink1URL: http://www.onsemi.com/; ComponentLink2Description: Datasheet; ComponentLink2URL: http://www.onsemi.com/pub/Collateral/MC74HC4051-D.PDF
footprint 620-10 (DIP; 16 Leads; Row Spacing 7.62 mm; Pitch 2.54 mm)
signal-integrity model MC54HC4053J
pins: 1 Y1 (io), 2 Y0 (io), 3 Z1 (io), 4 Z (io), 5 Z0 (io), 6 ~{EN} (in), 7 VEE (power), 8 GND (power), 9 C (in), 10 B (in), 11 A (in), 12 X0 (io), 13 X1 (io), 14 X (io), 15 Y (io), 16 VCC (power)

## MC74AC153D
designator U?
Dual 4-Input Multiplexer; Published: 15-Apr-2002; LatestRevisionDate: 13-Apr-2006; LatestRevisionNote: IPC-7351 Footprint Added.; DatasheetVersion: 9-Apr-1996; PackageVersion: Oct-1999; PackageReference: 751B-05; Publisher: Altium Limited; PackageDescription: 16-Pin Small Outline Integrated Circuit 1.27 mm Pitch; Code_JEDEC: MS-012-AC; Code_IPC: SOIC127P600-16; ComponentLink1Description: Manufacturer Link; ComponentLink1URL: http://www.onsemi.com/; ComponentLink2Description: Datasheet; ComponentLink2URL: http://www.onsemi.com/pub/Collateral/MC74AC153-D.PDF
footprint 751B-05_N (SOIC, 16-Leads, Body 9.9x3.9mm, Pitch 1.27mm, IPC Medium Density)
footprint 751B-05_L (SOIC, 16-Leads, Body 9.9x3.9mm, Pitch 1.27mm, IPC High Density)
footprint 751B-05_M (SOIC, 16-Leads, Body 9.9x3.9mm, Pitch 1.27mm, IPC Low Density)
signal-integrity model MC74AC153D
pins: 1 ~{E}A (in), 2 S1 (in), 3 I3A (in), 4 I2A (in), 5 I1A (in), 6 I0A (in), 7 ZA (out), 8 GND (power), 9 ZB (out), 10 I0B (in), 11 I1B (in), 12 I2B (in), 13 I3B (in), 14 S0 (in), 15 ~{E}B (in), 16 VCC (power)

## MC74AC153N
designator U?
Dual 4-Input Multiplexer; ComponentAvailability: Not for New Design; Published: 15-Apr-2002; DatasheetVersion: 9-Apr-1996; PackageVersion: Apr-2000; PackageReference: 648-08; Publisher: Altium Limited; PackageDescription: DIP; 16 Leads; Row Spacing 7.62 mm; Pitch 2.54 mm; Code_JEDEC: MS-001-BB; ComponentLink1Description: Manufacturer Link; ComponentLink1URL: http://www.onsemi.com/; ComponentLink2Description: Datasheet; ComponentLink2URL: http://www.onsemi.com/pub/Collateral/MC74AC153-D.PDF
footprint 648-08 (DIP; 16 Leads; Row Spacing 7.62 mm; Pitch 2.54 mm)
signal-integrity model MC74AC153N
pins: 1 ~{E}A (in), 2 S1 (in), 3 I3A (in), 4 I2A (in), 5 I1A (in), 6 I0A (in), 7 ZA (out), 8 GND (power), 9 ZB (out), 10 I0B (in), 11 I1B (in), 12 I2B (in), 13 I3B (in), 14 S0 (in), 15 ~{E}B (in), 16 VCC (power)

## MC74AC157D
designator U?
Quad 2-Input Multiplexer; Published: 15-Apr-2002; LatestRevisionDate: 13-Apr-2006; LatestRevisionNote: IPC-7351 Footprint Added.; DatasheetVersion: 9-Apr-1996; PackageVersion: Oct-1999; PackageReference: 751B-05; Publisher: Altium Limited; PackageDescription: 16-Pin Small Outline Integrated Circuit 1.27 mm Pitch; Code_JEDEC: MS-012-AC; Code_IPC: SOIC127P600-16; ComponentLink1Description: Manufacturer Link; ComponentLink1URL: http://www.onsemi.com/; ComponentLink2Description: Datasheet; ComponentLink2URL: http://www.onsemi.com/pub/Collateral/MC74AC157-D.PDF
footprint 751B-05_N (SOIC, 16-Leads, Body 9.9x3.9mm, Pitch 1.27mm, IPC Medium Density)
footprint 751B-05_L (SOIC, 16-Leads, Body 9.9x3.9mm, Pitch 1.27mm, IPC High Density)
footprint 751B-05_M (SOIC, 16-Leads, Body 9.9x3.9mm, Pitch 1.27mm, IPC Low Density)
signal-integrity model MC74AC157D
pins: 1 S (in), 2 I0A (in), 3 I1A (in), 4 ZA (out), 5 I0B (in), 6 I1B (in), 7 ZB (out), 8 GND (power), 9 ZD (out), 10 I1D (in), 11 I0D (in), 12 ZC (out), 13 I1C (in), 14 I0C (in), 15 ~{OE} (in), 16 VCC (power)

## MC74AC157N
designator U?
Quad 2-Input Multiplexer; Published: 15-Apr-2002; DatasheetVersion: 9-Apr-1996; PackageVersion: Apr-2000; PackageReference: 648-08; Publisher: Altium Limited; PackageDescription: DIP; 16 Leads; Row Spacing 7.62 mm; Pitch 2.54 mm; Code_JEDEC: MS-001-BB; ComponentLink1Description: Manufacturer Link; ComponentLink1URL: http://www.onsemi.com/; ComponentLink2Description: Datasheet; ComponentLink2URL: http://www.onsemi.com/pub/Collateral/MC74AC157-D.PDF
footprint 648-08 (DIP; 16 Leads; Row Spacing 7.62 mm; Pitch 2.54 mm)
signal-integrity model MC74AC157N
pins: 1 S (in), 2 I0A (in), 3 I1A (in), 4 ZA (out), 5 I0B (in), 6 I1B (in), 7 ZB (out), 8 GND (power), 9 ZD (out), 10 I1D (in), 11 I0D (in), 12 ZC (out), 13 I1C (in), 14 I0C (in), 15 ~{OE} (in), 16 VCC (power)

## MC74AC253D
designator U?
Dual 4-Input Multiplexer with 3-State Outputs; Published: 15-Apr-2002; LatestRevisionDate: 13-Apr-2006; LatestRevisionNote: IPC-7351 Footprint Added.; DatasheetVersion: 9-Apr-1996; PackageVersion: Oct-1999; PackageReference: 751B-05; Publisher: Altium Limited; PackageDescription: 16-Pin Small Outline Integrated Circuit 1.27 mm Pitch; Code_JEDEC: MS-012-AC; Code_IPC: SOIC127P600-16; ComponentLink1Description: Manufacturer Link; ComponentLink1URL: http://www.onsemi.com/; ComponentLink2Description: Datasheet; ComponentLink2URL: http://www.onsemi.com/pub/Collateral/MC74AC253-D.PDF
footprint 751B-05_N (SOIC, 16-Leads, Body 9.9x3.9mm, Pitch 1.27mm, IPC Medium Density)
footprint 751B-05_L (SOIC, 16-Leads, Body 9.9x3.9mm, Pitch 1.27mm, IPC High Density)
footprint 751B-05_M (SOIC, 16-Leads, Body 9.9x3.9mm, Pitch 1.27mm, IPC Low Density)
signal-integrity model MC74AC253D
pins: 1 ~{OE}A (in), 2 S1 (in), 3 I3A (in), 4 I2A (in), 5 I1A (in), 6 I0A (in), 7 ZA (hiz), 8 GND (power), 9 ZB (hiz), 10 I0B (in), 11 I1B (in), 12 I2B (in), 13 I3B (in), 14 S0 (in), 15 ~{OE}B (in), 16 VCC (power)

## MC74AC253N
designator U?
Dual 4-Input Multiplexer with 3-State Outputs; Published: 15-Apr-2002; DatasheetVersion: 9-Apr-1996; PackageVersion: Apr-2000; PackageReference: 648-08; Publisher: Altium Limited; PackageDescription: DIP; 16 Leads; Row Spacing 7.62 mm; Pitch 2.54 mm; Code_JEDEC: MS-001-BB; ComponentLink1Description: Manufacturer Link; ComponentLink1URL: http://www.onsemi.com/; ComponentLink2Description: Datasheet; ComponentLink2URL: http://www.onsemi.com/pub/Collateral/MC74AC253-D.PDF
footprint 648-08 (DIP; 16 Leads; Row Spacing 7.62 mm; Pitch 2.54 mm)
signal-integrity model MC74AC253N
pins: 1 ~{OE}A (in), 2 S1 (in), 3 I3A (in), 4 I2A (in), 5 I1A (in), 6 I0A (in), 7 ZA (hiz), 8 GND (power), 9 ZB (hiz), 10 I0B (in), 11 I1B (in), 12 I2B (in), 13 I3B (in), 14 S0 (in), 15 ~{OE}B (in), 16 VCC (power)

## MC74AC257D
designator U?
Quad 2-Input Multiplexer with 3-State Outputs; Published: 15-Apr-2002; LatestRevisionDate: 13-Apr-2006; LatestRevisionNote: IPC-7351 Footprint Added.; DatasheetVersion: 9-Apr-1996; PackageVersion: Oct-1999; PackageReference: 751B-05; Publisher: Altium Limited; PackageDescription: 16-Pin Small Outline Integrated Circuit 1.27 mm Pitch; Code_JEDEC: MS-012-AC; Code_IPC: SOIC127P600-16; ComponentLink1Description: Manufacturer Link; ComponentLink1URL: http://www.onsemi.com/; ComponentLink2Description: Datasheet; ComponentLink2URL: http://www.onsemi.com/pub/Collateral/MC74AC257-D.PDF
footprint 751B-05_N (SOIC, 16-Leads, Body 9.9x3.9mm, Pitch 1.27mm, IPC Medium Density)
footprint 751B-05_L (SOIC, 16-Leads, Body 9.9x3.9mm, Pitch 1.27mm, IPC High Density)
footprint 751B-05_M (SOIC, 16-Leads, Body 9.9x3.9mm, Pitch 1.27mm, IPC Low Density)
signal-integrity model MC74AC257D
pins: 1 SEL (in), 2 I0A (in), 3 I1A (in), 4 ZA (hiz), 5 I0B (in), 6 I1B (in), 7 ZB (hiz), 8 GND (power), 9 ZD (hiz), 10 I1D (in), 11 I0D (in), 12 ZC (hiz), 13 I1C (in), 14 I0C (in), 15 ~{OE} (in), 16 VCC (power)

## MC74AC257N
designator U?
Quad 2-Input Multiplexer with 3-State Outputs; Published: 15-Apr-2002; DatasheetVersion: 9-Apr-1996; PackageVersion: Apr-2000; PackageReference: 648-08; Publisher: Altium Limited; PackageDescription: DIP; 16 Leads; Row Spacing 7.62 mm; Pitch 2.54 mm; Code_JEDEC: MS-001-BB; ComponentLink1Description: Manufacturer Link; ComponentLink1URL: http://www.onsemi.com/; ComponentLink2Description: Datasheet; ComponentLink2URL: http://www.onsemi.com/pub/Collateral/MC74AC257-D.PDF
footprint 648-08 (DIP; 16 Leads; Row Spacing 7.62 mm; Pitch 2.54 mm)
signal-integrity model MC74AC257N
pins: 1 SEL (in), 2 I0A (in), 3 I1A (in), 4 ZA (hiz), 5 I0B (in), 6 I1B (in), 7 ZB (hiz), 8 GND (power), 9 ZD (hiz), 10 I1D (in), 11 I0D (in), 12 ZC (hiz), 13 I1C (in), 14 I0C (in), 15 ~{OE} (in), 16 VCC (power)

## MC74ACT153D
designator U?
Dual 4-Input Multiplexer; Published: 15-Apr-2002; LatestRevisionDate: 13-Apr-2006; LatestRevisionNote: IPC-7351 Footprint Added.; DatasheetVersion: 9-Apr-1996; PackageVersion: Oct-1999; PackageReference: 751B-05; Publisher: Altium Limited; PackageDescription: 16-Pin Small Outline Integrated Circuit 1.27 mm Pitch; Code_JEDEC: MS-012-AC; Code_IPC: SOIC127P600-16; ComponentLink1Description: Manufacturer Link; ComponentLink1URL: http://www.onsemi.com/; ComponentLink2Description: Datasheet; ComponentLink2URL: http://www.onsemi.com/pub/Collateral/MC74AC153-D.PDF
footprint 751B-05_N (SOIC, 16-Leads, Body 9.9x3.9mm, Pitch 1.27mm, IPC Medium Density)
footprint 751B-05_L (SOIC, 16-Leads, Body 9.9x3.9mm, Pitch 1.27mm, IPC High Density)
footprint 751B-05_M (SOIC, 16-Leads, Body 9.9x3.9mm, Pitch 1.27mm, IPC Low Density)
signal-integrity model MC74ACT153D
pins: 1 ~{E}A (in), 2 S1 (in), 3 I3A (in), 4 I2A (in), 5 I1A (in), 6 I0A (in), 7 ZA (out), 8 GND (power), 9 ZB (out), 10 I0B (in), 11 I1B (in), 12 I2B (in), 13 I3B (in), 14 S0 (in), 15 ~{E}B (in), 16 VCC (power)

## MC74ACT153N
designator U?
Dual 4-Input Multiplexer; Published: 15-Apr-2002; DatasheetVersion: 9-Apr-1996; PackageVersion: Apr-2000; PackageReference: 648-08; Publisher: Altium Limited; PackageDescription: DIP; 16 Leads; Row Spacing 7.62 mm; Pitch 2.54 mm; Code_JEDEC: MS-001-BB; ComponentLink1Description: Manufacturer Link; ComponentLink1URL: http://www.onsemi.com/; ComponentLink2Description: Datasheet; ComponentLink2URL: http://www.onsemi.com/pub/Collateral/MC74AC153-D.PDF
footprint 648-08 (DIP; 16 Leads; Row Spacing 7.62 mm; Pitch 2.54 mm)
signal-integrity model MC74ACT153N
pins: 1 ~{E}A (in), 2 S1 (in), 3 I3A (in), 4 I2A (in), 5 I1A (in), 6 I0A (in), 7 ZA (out), 8 GND (power), 9 ZB (out), 10 I0B (in), 11 I1B (in), 12 I2B (in), 13 I3B (in), 14 S0 (in), 15 ~{E}B (in), 16 VCC (power)

## MC74ACT157D
designator U?
Quad 2-Input Multiplexer; Published: 15-Apr-2002; LatestRevisionDate: 13-Apr-2006; LatestRevisionNote: IPC-7351 Footprint Added.; DatasheetVersion: 9-Apr-1996; PackageVersion: Oct-1999; PackageReference: 751B-05; Publisher: Altium Limited; PackageDescription: 16-Pin Small Outline Integrated Circuit 1.27 mm Pitch; Code_JEDEC: MS-012-AC; Code_IPC: SOIC127P600-16; ComponentLink1Description: Manufacturer Link; ComponentLink1URL: http://www.onsemi.com/; ComponentLink2Description: Datasheet; ComponentLink2URL: http://www.onsemi.com/pub/Collateral/MC74AC157-D.PDF
footprint 751B-05_N (SOIC, 16-Leads, Body 9.9x3.9mm, Pitch 1.27mm, IPC Medium Density)
footprint 751B-05_L (SOIC, 16-Leads, Body 9.9x3.9mm, Pitch 1.27mm, IPC High Density)
footprint 751B-05_M (SOIC, 16-Leads, Body 9.9x3.9mm, Pitch 1.27mm, IPC Low Density)
signal-integrity model MC74ACT157D
pins: 1 S (in), 2 I0A (in), 3 I1A (in), 4 ZA (out), 5 I0B (in), 6 I1B (in), 7 ZB (out), 8 GND (power), 9 ZD (out), 10 I1D (in), 11 I0D (in), 12 ZC (out), 13 I1C (in), 14 I0C (in), 15 ~{OE} (in), 16 VCC (power)

## MC74ACT157N
designator U?
Quad 2-Input Multiplexer; Published: 15-Apr-2002; DatasheetVersion: 9-Apr-1996; PackageVersion: Apr-2000; PackageReference: 648-08; Publisher: Altium Limited; PackageDescription: DIP; 16 Leads; Row Spacing 7.62 mm; Pitch 2.54 mm; Code_JEDEC: MS-001-BB; ComponentLink1Description: Manufacturer Link; ComponentLink1URL: http://www.onsemi.com/; ComponentLink2Description: Datasheet; ComponentLink2URL: http://www.onsemi.com/pub/Collateral/MC74AC157-D.PDF
footprint 648-08 (DIP; 16 Leads; Row Spacing 7.62 mm; Pitch 2.54 mm)
signal-integrity model MC74ACT157N
pins: 1 S (in), 2 I0A (in), 3 I1A (in), 4 ZA (out), 5 I0B (in), 6 I1B (in), 7 ZB (out), 8 GND (power), 9 ZD (out), 10 I1D (in), 11 I0D (in), 12 ZC (out), 13 I1C (in), 14 I0C (in), 15 ~{OE} (in), 16 VCC (power)

## MC74ACT253D
designator U?
Dual 4-Input Multiplexer with 3-State Outputs; Published: 15-Apr-2002; LatestRevisionDate: 13-Apr-2006; LatestRevisionNote: IPC-7351 Footprint Added.; DatasheetVersion: 9-Apr-1996; PackageVersion: Oct-1999; PackageReference: 751B-05; Publisher: Altium Limited; PackageDescription: 16-Pin Small Outline Integrated Circuit 1.27 mm Pitch; Code_JEDEC: MS-012-AC; Code_IPC: SOIC127P600-16; ComponentLink1Description: Manufacturer Link; ComponentLink1URL: http://www.onsemi.com/; ComponentLink2Description: Datasheet; ComponentLink2URL: http://www.onsemi.com/pub/Collateral/MC74AC253-D.PDF
footprint 751B-05_N (SOIC, 16-Leads, Body 9.9x3.9mm, Pitch 1.27mm, IPC Medium Density)
footprint 751B-05_L (SOIC, 16-Leads, Body 9.9x3.9mm, Pitch 1.27mm, IPC High Density)
footprint 751B-05_M (SOIC, 16-Leads, Body 9.9x3.9mm, Pitch 1.27mm, IPC Low Density)
signal-integrity model MC74ACT253D
pins: 1 ~{OE}A (in), 2 S1 (in), 3 I3A (in), 4 I2A (in), 5 I1A (in), 6 I0A (in), 7 ZA (hiz), 8 GND (power), 9 ZB (hiz), 10 I0B (in), 11 I1B (in), 12 I2B (in), 13 I3B (in), 14 S0 (in), 15 ~{OE}B (in), 16 VCC (power)

## MC74ACT253N
designator U?
Dual 4-Input Multiplexer with 3-State Outputs; Published: 15-Apr-2002; DatasheetVersion: 9-Apr-1996; PackageVersion: Apr-2000; PackageReference: 648-08; Publisher: Altium Limited; PackageDescription: DIP; 16 Leads; Row Spacing 7.62 mm; Pitch 2.54 mm; Code_JEDEC: MS-001-BB; ComponentLink1Description: Manufacturer Link; ComponentLink1URL: http://www.onsemi.com/; ComponentLink2Description: Datasheet; ComponentLink2URL: http://www.onsemi.com/pub/Collateral/MC74AC253-D.PDF
footprint 648-08 (DIP; 16 Leads; Row Spacing 7.62 mm; Pitch 2.54 mm)
signal-integrity model MC74ACT253N
pins: 1 ~{OE}A (in), 2 S1 (in), 3 I3A (in), 4 I2A (in), 5 I1A (in), 6 I0A (in), 7 ZA (hiz), 8 GND (power), 9 ZB (hiz), 10 I0B (in), 11 I1B (in), 12 I2B (in), 13 I3B (in), 14 S0 (in), 15 ~{OE}B (in), 16 VCC (power)

## MC74ACT257D
designator U?
Quad 2-Input Multiplexer with 3-State Outputs; Published: 15-Apr-2002; LatestRevisionDate: 13-Apr-2006; LatestRevisionNote: IPC-7351 Footprint Added.; DatasheetVersion: 9-Apr-1996; PackageVersion: Oct-1999; PackageReference: 751B-05; Publisher: Altium Limited; PackageDescription: 16-Pin Small Outline Integrated Circuit 1.27 mm Pitch; Code_JEDEC: MS-012-AC; Code_IPC: SOIC127P600-16; ComponentLink1Description: Manufacturer Link; ComponentLink1URL: http://www.onsemi.com/; ComponentLink2Description: Datasheet; ComponentLink2URL: http://www.onsemi.com/pub/Collateral/MC74AC257-D.PDF
footprint 751B-05_N (SOIC, 16-Leads, Body 9.9x3.9mm, Pitch 1.27mm, IPC Medium Density)
footprint 751B-05_L (SOIC, 16-Leads, Body 9.9x3.9mm, Pitch 1.27mm, IPC High Density)
footprint 751B-05_M (SOIC, 16-Leads, Body 9.9x3.9mm, Pitch 1.27mm, IPC Low Density)
signal-integrity model MC74ACT257D
pins: 1 SEL (in), 2 I0A (in), 3 I1A (in), 4 ZA (hiz), 5 I0B (in), 6 I1B (in), 7 ZB (hiz), 8 GND (power), 9 ZD (hiz), 10 I1D (in), 11 I0D (in), 12 ZC (hiz), 13 I1C (in), 14 I0C (in), 15 ~{OE} (in), 16 VCC (power)

## MC74ACT257N
designator U?
Quad 2-Input Multiplexer with 3-State Outputs; Published: 15-Apr-2002; DatasheetVersion: 9-Apr-1996; PackageVersion: Apr-2000; PackageReference: 648-08; Publisher: Altium Limited; PackageDescription: DIP; 16 Leads; Row Spacing 7.62 mm; Pitch 2.54 mm; Code_JEDEC: MS-001-BB; ComponentLink1Description: Manufacturer Link; ComponentLink1URL: http://www.onsemi.com/; ComponentLink2Description: Datasheet; ComponentLink2URL: http://www.onsemi.com/pub/Collateral/MC74AC257-D.PDF
footprint 648-08 (DIP; 16 Leads; Row Spacing 7.62 mm; Pitch 2.54 mm)
signal-integrity model MC74ACT257N
pins: 1 SEL (in), 2 I0A (in), 3 I1A (in), 4 ZA (hiz), 5 I0B (in), 6 I1B (in), 7 ZB (hiz), 8 GND (power), 9 ZD (hiz), 10 I1D (in), 11 I0D (in), 12 ZC (hiz), 13 I1C (in), 14 I0C (in), 15 ~{OE} (in), 16 VCC (power)